# Altium footprint library Displays LCD.PcbLib: 1 footprints
Each footprint in its own frame and in the unit in brackets; x right, y up, seen from the top. Pads: shape width x height; smd on the part's side, far side on the other; paste and mask are expansions set on the pad; w line width, h text height; cw(c..) or ccw(c..) is an arc to the next point about the centre after c.
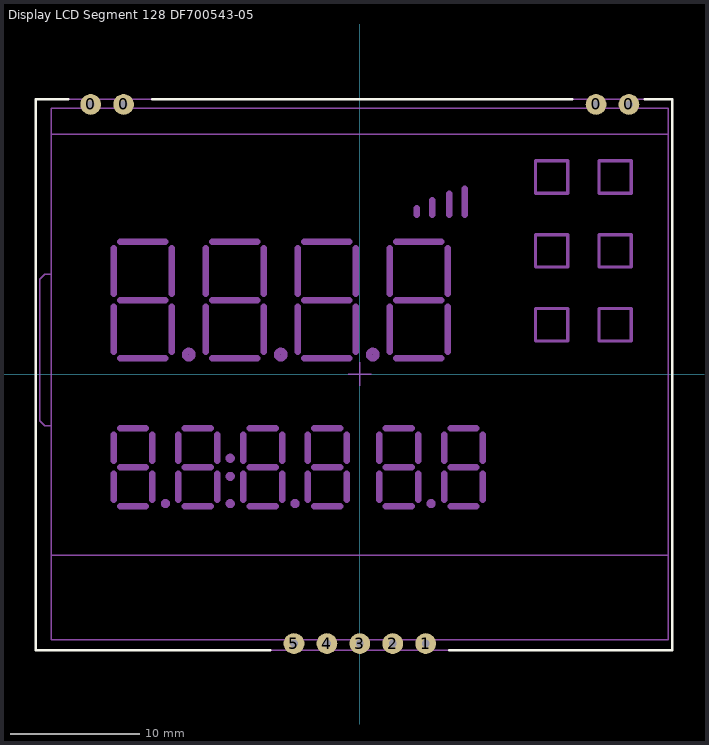
[diagram p0: the footprint, top view; thin cyan lines are the x and y axes]

## Display LCD Segment 128 DF700543-05 [mm]
height 6
pads (9):
  round 1.6 hole 0.6: 0(-20.765,20.8) 0(-18.225,20.8) 0(18.225,20.8) 0(20.765,20.8) 1(5.08,-20.8) 2(2.54,-20.8) 3(0,-20.8) 4(-2.54,-20.8) 5(-5.08,-20.8)
Top Overlay:
  lines w0.2: -22.5,21.2 -25,21.2 -25,-21.3 -6.9,-21.3 ; -16,21.2 16.4,21.2 ; 6.9,-21.3 24.1,-21.3 24.1,21.2 22,21.2
Top Package:
  circle w0.5: c-13.2,1.5 r0.281
  circle w0.5: c1,1.5 r0.281
  circle w0.5: c-15,-10 r0.1
  circle w0.5: c-5,-10 r0.1
  circle w0.5: c5.5,-10 r0.1
  circle w0.5: c-10,-6.5 r0.1
  circle w0.5: c-6.1,1.5 r0.281
  circle w0.5: c-10,-10 r0.1
  circle w0.5: c-10,-7.9 r0.1
  lines w0.1: -23.8,-14 23.8,-14 ; -23.8,-4 -24.3,-4 -24.7,-3.6 -24.7,7.3 -24.3,7.7 -23.8,7.7 ; -23.8,18.5 23.8,18.5 ; -21.245,20.5 -21.245,21 -20.345,21 -20.345,20.5 ; -18.705,20.5 -18.705,21 -17.805,21 -17.805,20.5 ; -5.5,-20.5 -5.5,-21 -4.6,-21 -4.6,-20.5 ; -2.96,-20.5 -2.96,-21 -2.06,-21 -2.06,-20.5 ; -0.42,-20.5 -0.42,-21 0.48,-21 0.48,-20.5 ; 2.12,-20.5 2.12,-21 3.02,-21 3.02,-20.5 ; 4.66,-20.5 4.66,-21 5.56,-21 5.56,-20.5 ; 17.745,20.5 17.745,21 18.645,21 18.645,20.5 ; 20.285,20.5 20.285,21 21.185,21 21.185,20.5 ; -23.8,-20.5 -23.8,20.5 23.8,20.5 23.8,-20.5 -23.8,-20.5
  lines w0.254: 13.55,2.55 13.55,5.05 16.05,5.05 16.05,2.55 13.55,2.55 ; 13.55,8.25 13.55,10.75 16.05,10.75 16.05,8.25 13.55,8.25 ; 13.55,13.95 13.55,16.45 16.05,16.45 16.05,13.95 13.55,13.95 ; 18.45,2.55 18.45,5.05 20.95,5.05 20.95,2.55 18.45,2.55 ; 18.45,8.25 18.45,10.75 20.95,10.75 20.95,8.25 18.45,8.25 ; 18.45,13.95 18.45,16.45 20.95,16.45 20.95,13.95 18.45,13.95
  lines w0.5: -19,-9.7 -19,-7.7 ; -19,-6.7 -19,-4.7 ; -19,1.7 -19,5.2 ; -19,6.2 -19,9.7 ; -18.5,-10.2 -16.5,-10.2 ; -18.5,-7.2 -16.5,-7.2 ; -18.5,-4.2 -16.5,-4.2 ; -18.5,1.2 -15,1.2 ; -18.5,5.7 -15,5.7 ; -18.5,10.2 -15,10.2 ; -16,-9.7 -16,-7.7 ; -16,-6.7 -16,-4.7 ; -14.5,1.7 -14.5,5.2 ; -14.5,6.2 -14.5,9.7 ; -14,-9.7 -14,-7.7 ; -14,-6.7 -14,-4.7 ; -13.5,-10.2 -11.5,-10.2 ; -13.5,-7.2 -11.5,-7.2 ; -13.5,-4.2 -11.5,-4.2 ; -11.9,1.7 -11.9,5.2 ; -11.9,6.2 -11.9,9.7 ; -11.4,1.2 -7.9,1.2 ; -11.4,5.7 -7.9,5.7 ; -11.4,10.2 -7.9,10.2 ; -11,-9.7 -11,-7.7 ; -11,-6.7 -11,-4.7 ; -9,-9.7 -9,-7.7 ; -9,-6.7 -9,-4.7 ; -8.5,-10.2 -6.5,-10.2 ; -8.5,-7.2 -6.5,-7.2 ; -8.5,-4.2 -6.5,-4.2 ; -7.4,1.7 -7.4,5.2 ; -7.4,6.2 -7.4,9.7 ; -6,-9.7 -6,-7.7 ; -6,-6.7 -6,-4.7 ; -4.8,1.7 -4.8,5.2 ; -4.8,6.2 -4.8,9.7 ; -4.3,1.2 -0.8,1.2 ; -4.3,5.7 -0.8,5.7 ; -4.3,10.2 -0.8,10.2 ; -4,-9.7 -4,-7.7 ; -4,-6.7 -4,-4.7 ; -3.5,-10.2 -1.5,-10.2 ; -3.5,-7.2 -1.5,-7.2 ; -3.5,-4.2 -1.5,-4.2 ; -1,-9.7 -1,-7.7 ; -1,-6.7 -1,-4.7 ; -0.3,1.7 -0.3,5.2 ; -0.3,6.2 -0.3,9.7 ; 1.5,-9.7 1.5,-7.7 ; 1.5,-6.7 1.5,-4.7 ; 2,-10.2 4,-10.2 ; 2,-7.2 4,-7.2 ; 2,-4.2 4,-4.2 ; 2.3,1.7 2.3,5.2 ; 2.3,6.2 2.3,9.7 ; 2.8,1.2 6.3,1.2 ; 2.8,5.7 6.3,5.7 ; 2.8,10.2 6.3,10.2 ; 4.4,12.3 4.4,12.8 ; 4.5,-9.7 4.5,-7.7 ; 4.5,-6.7 4.5,-4.7 ; 5.6,12.3 5.6,13.4 ; 6.5,-9.7 6.5,-7.7 ; 6.5,-6.7 6.5,-4.7 ; 6.8,1.7 6.8,5.2 ; 6.8,6.2 6.8,9.7 ; 6.9,12.3 6.9,13.9 ; 7,-10.2 9,-10.2 ; 7,-7.2 9,-7.2 ; 7,-4.2 9,-4.2 ; 8.1,12.3 8.1,14.3 ; 9.5,-9.7 9.5,-7.7 ; 9.5,-6.7 9.5,-4.7
  text "TIME" at -19.1,-2.9 h1.52
  text "STOP" at -3.8,11.9 h1.52
  text "RUN" at -10.9,11.9 h1.52
  text "PROG" at -19.2,11.9 h1.52
  text "km/h" at 11.4,-11.2 h1.52
  text "m/s" at 11.3,-8.7 h1.52
  text "Hum %" at 11.4,-5.8 h1.52
  text "SPEED" at 1.4,-2.8 h1.52
Top Border:
  lines w0.1: -0.9,0 0.9,0 ; 0,-0.9 0,0.9 ; -25,-21.3 24.1,-21.3 24.1,21.2 -25,21.2 -25,-21.3
3D body "DISP SEG LCD128 DF700543-05.stp": height 5.61, standoff -1.5, extent -24.765,-20.9 23.77,20.9